# EAGLE library part TL084 (library wb-opamps)
FET-Input Operational Amplifiers https://www.ti.com/lit/ds/symlink/tl084.pdf
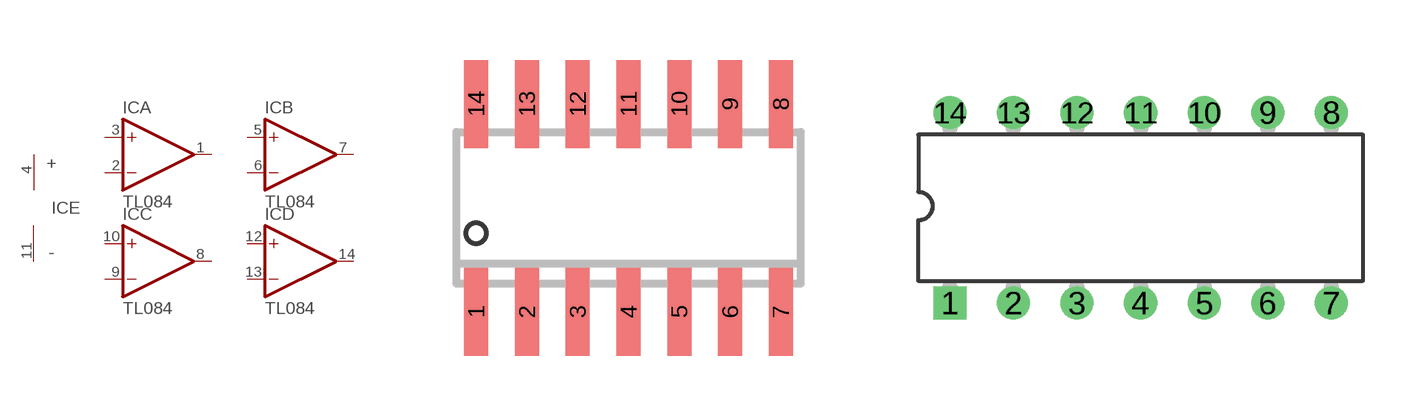
[diagram p5: symbol with the pads of S014; footprints S014, DIL14]

Designator prefix IC; gates A=TYP-OP B=TYP-OP C=TYP-OP D=TYP-OP E=TYP-PWR

## TL084S  [S014]
1  A:OUT  out
2  A:INVERTING(-)  in
3  A:NON-INVERTING(+)  in
4  E:V+  pwr
5  B:NON-INVERTING(+)  in
6  B:INVERTING(-)  in
7  B:OUT  out
8  C:OUT  out
9  C:INVERTING(-)  in
10  C:NON-INVERTING(+)  in
11  E:V-  pwr
12  D:NON-INVERTING(+)  in
13  D:INVERTING(-)  in
14  D:OUT  out

## TL084D  [DIL14]
Pads as for S014

## Footprint S014 (pad centres in mm)
smd 0.6 x 2.2: 1 -3.81,-2.6; 2 -2.54,-2.6; 3 -1.27,-2.6; 4 0,-2.6; 5 1.27,-2.6; 6 2.54,-2.6; 7 3.81,-2.6; 8 3.81,2.6; 9 2.54,2.6; 10 1.27,2.6; 11 0,2.6; 12 -1.27,2.6; 13 -2.54,2.6; 14 -3.81,2.6

## Footprint DIL14 (pad centres in mm)
drill 0.813 square: 1 -7.62,-3.81
drill 0.813: 2 -5.08,-3.81; 3 -2.54,-3.81; 4 0,-3.81; 5 2.54,-3.81; 6 5.08,-3.81; 7 7.62,-3.81; 8 7.62,3.81; 9 5.08,3.81; 10 2.54,3.81; 11 0,3.81; 12 -2.54,3.81; 13 -5.08,3.81; 14 -7.62,3.81